# Altium schematic symbol library Resistors.SchLib: 2 symbols
Pins are listed as number, name and electrical type; pins without a type are passive.

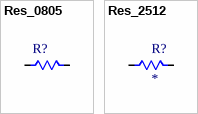
[diagram p0: symbols Res_0805 to Res_2512]

## Res_0805
designator R?
Res 0805
footprint 0805
pins: 1, 2

## Res_2512
designator R?
Res 2512
footprint 2512
pins: 1, 2